# Altium schematic symbol library PCB1_BioTron.SchLib: 10 symbols
Pins are listed as number, name and electrical type; pins without a type are passive.

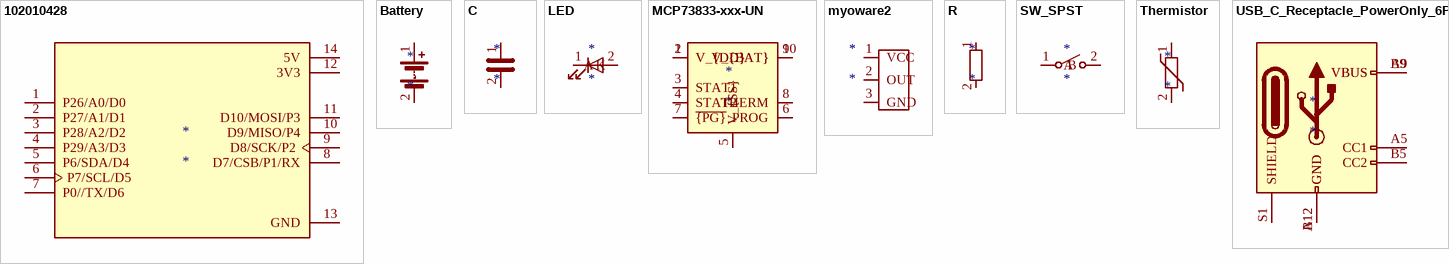
[diagram p0: symbols 102010428 to USB_C_Receptacle_PowerOnly_6P]

## 102010428
designator *
pins: 1 P26/A0/D0, 2 P27/A1/D1, 3 P28/A2/D2, 4 P29/A3/D3, 5 P6/SDA/D4, 6 P7/SCL/D5, 7 P0//TX/D6, 8 D7/CSB/P1/RX, 9 D8/SCK/P2, 10 D9/MISO/P4, 11 D10/MOSI/P3, 12 3V3, 13 GND, 14 5V

## Battery
designator *
pins: 1 +, 2 -

## C
designator *
pins: 1, 2

## LED
designator *
pins: 1 K, 2 A

## MCP73833-xxx-UN
designator *
pins: 1 V_{DD}, 2 V_{DD}, 3 STAT1, 4 STAT2, 5 V_{SS}, 6 PROG, 7 ~{{PG}}, 8 THERM, 9 V_{BAT}, 10 V_{BAT}

## myoware2
designator *
pins: 1 VCC, 2 OUT, 3 GND

## R
designator *
pins: 1, 2

## SW_SPST
designator *
pins: 1 A, 2 B

## Thermistor
designator *
pins: 1, 2

## USB_C_Receptacle_PowerOnly_6P
designator *
pins: A5 CC1, A9 VBUS, A12 GND, B5 CC2, B9 VBUS, B12 GND, S1 SHIELD